# EAGLE library part RADIO (library RADIO library)
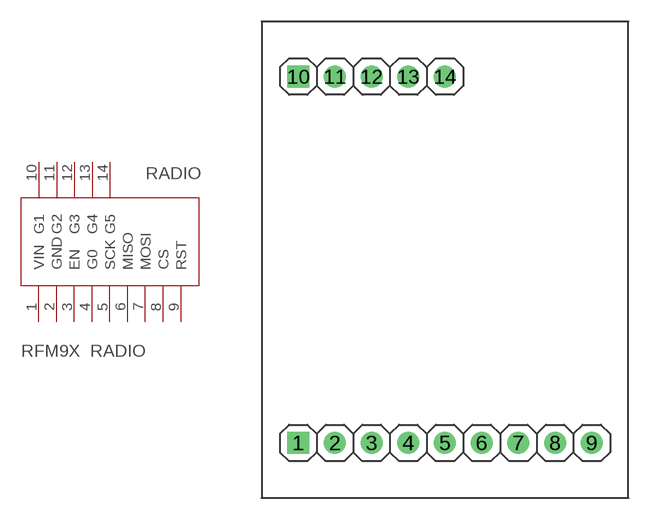
[diagram p0: symbol with the pads of RFM9X; footprint RFM9X]

Designator prefix -

## RADIORFM9X  [RFM9X]
1  VIN
2  GND
3  EN
4  G0
5  SCK
6  MISO
7  MOSI
8  CS
9  RST
10  G1
11  G2
12  G3
13  G4
14  G5

## Footprint RFM9X (pad centres in mm)
PIN HEADER
drill 1.016 square: 1 0,0; 10 0,25.4
drill 1.016: 2 2.54,0; 3 5.08,0; 4 7.62,0; 5 10.16,0; 6 12.7,0; 7 15.24,0; 8 17.78,0; 9 20.32,0; 11 2.54,25.4; 12 5.08,25.4; 13 7.62,25.4; 14 10.16,25.4